# Altium footprint library PCB - FERRITE - CHIP - FER 1206_3216.PCBLIB: 1 footprints
Each footprint in its own frame and in the unit in brackets; x right, y up, seen from the top. Pads: shape width x height; smd on the part's side, far side on the other; paste and mask are expansions set on the pad; w line width, h text height; cw(c..) or ccw(c..) is an arc to the next point about the centre after c.
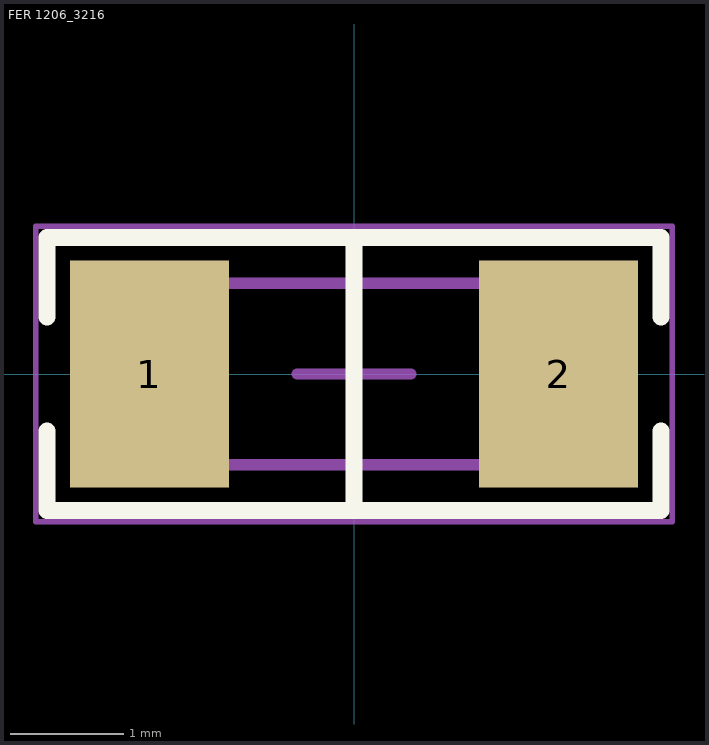
[diagram p0: the footprint, top view; thin cyan lines are the x and y axes]

## FER 1206_3216 [mm] "Chip Ferrite, 2-Leads, Body 3.20x1.60mm, IPC Medium Density"
height 1.1
pads (2):
  rect 1.4x2 smd: 1(-1.8,0) 2(1.8,0)
Top Overlay:
  lines w0.15: -2.7,-0.5 -2.7,-1.2 2.7,-1.2 2.7,-0.5 ; -2.7,0.5 -2.7,1.2 2.7,1.2 2.7,0.5 ; 0,-1.128 0,1.2
Mechanical 13:
  lines w0.1: -1.65,-0.8 1.65,-0.8 1.65,0.8 -1.65,0.8 -1.65,-0.8
Mechanical 15:
  lines w0.05: -2.8,-1.3 2.8,-1.3 2.8,1.3 -2.8,1.3 -2.8,-1.3
  lines w0.1: -0.5,0 0.5,0 ; 0,-0.5 0,0.5
3D body "FER 1206.step": height 1.3, standoff 0, extent -1.65,-0.85 1.65,0.85